# EAGLE library part MOLEX_0541020164 (library wiiBL)
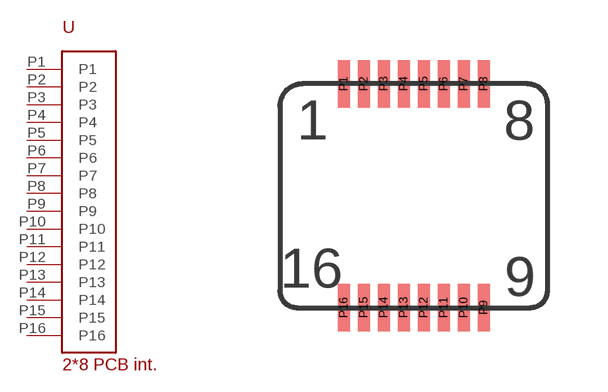
[diagram p0: symbol with the pads of MOLEX_0541020164; footprint MOLEX_0541020164]

Designator prefix -

## MOLEX_0541020164MOLEX  [MOLEX_0541020164]
P1  P1
P2  P2
P3  P3
P4  P4
P5  P5
P6  P6
P7  P7
P8  P8
P9  P9
P10  P10
P11  P11
P12  P12
P13  P13
P14  P14
P15  P15
P16  P16

## Footprint MOLEX_0541020164 (pad centres in mm)
smd 0.3 x 1.2: P1 0,5.6; P2 0.5,5.6; P3 1,5.6; P4 1.5,5.6; P5 2,5.6; P6 2.5,5.6; P7 3,5.6; P8 3.5,5.6; P9 3.5,0; P10 3,0; P11 2.5,0; P12 2,0; P13 1.5,0; P14 1,0; P15 0.5,0; P16 0,0